# EAGLE library part LP2951ACM-3.3 (library joshashby)
LP2951 3.3V 100mA low drop out, accurate (.5% tolerance) regulator from National Semi in the SOIC-8 package with the Sense, Feedback, Error, Shutdown and V-Tap pins broken out.
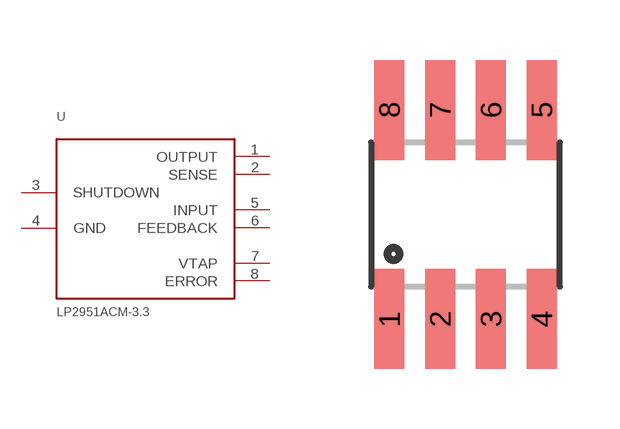
[diagram p0: symbol with the pads of SOIC-8; footprint SOIC-8]

Designator prefix -

## LP2951ACM-3.3  [SOIC-8]
1  OUTPUT
2  SENSE
3  SHUTDOWN
4  GND
5  INPUT
6  FEEDBACK
7  VTAP
8  ERROR

## Footprint SOIC-8 (pad centres in mm)
smd 0.75 x 2.5: 1 -1.905,-2.616; 2 -0.635,-2.616; 3 0.635,-2.616; 4 1.905,-2.616; 5 1.905,2.616; 6 0.635,2.616; 7 -0.635,2.616; 8 -1.905,2.616